# EAGLE library part ESDALCL6-2SC6 (library STMicroelectrionics)
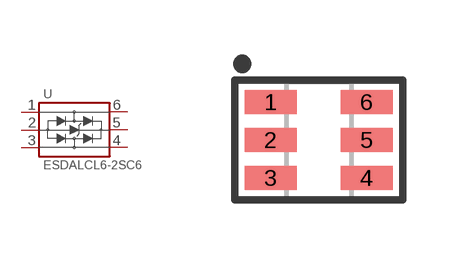
[diagram p9: symbol with the pads of SOT23-6; footprint SOT23-6]

Designator prefix U

## ESDALCL6-2SC6  [SOT23-6]
1  I/O1
2  GND
3  I/O2
4  I/O2
5  VCC
6  I/O1

## Footprint SOT23-6 (pad centres in mm)
smd 1.3 x 0.6: 1 -1.2,0.95; 2 -1.2,0; 3 -1.2,-0.95; 4 1.2,-0.95; 5 1.2,0; 6 1.2,0.95